# EAGLE library part ADP2504 (library SophiEaglev9)
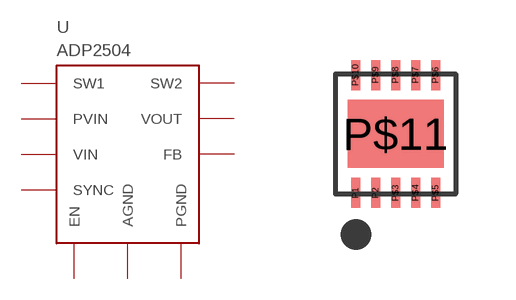
[diagram p5: symbol with the pads of ADP2504; footprint ADP2504]

Designator prefix -

## ADP2504  [ADP2504]
P1  VOUT
P2  SW2
P$3  PGND
P$4  SW1
P$5  PVIN
P$6  EN
P$7  SYNC
P$8  VIN
P$9  AGND
P$10  FB
P$11  PGND

## Footprint ADP2504 (pad centres in mm)
smd 0.225 x 0.75: P1 0.5,0.025; P2 1,0.025; P$3 1.5,0.025; P$4 2,0.025; P$5 2.5,0.025; P$6 2.5,2.972; P$7 2,2.972; P$8 1.5,2.972; P$9 1,2.972; P$10 0.5,2.972
smd 2.4 x 1.7: P$11 1.5,1.5